# Altium footprint library APA3010.PcbLib: 1 footprints
Each footprint in its own frame and in the unit in brackets; x right, y up, seen from the top. Pads: shape width x height; smd on the part's side, far side on the other; paste and mask are expansions set on the pad; w line width, h text height; cw(c..) or ccw(c..) is an arc to the next point about the centre after c.
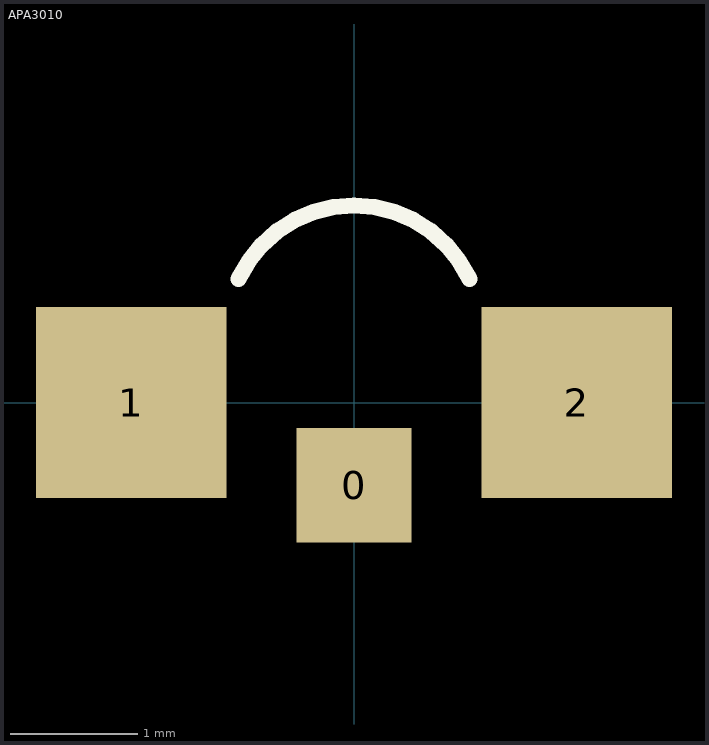
[diagram p0: the footprint, top view; thin cyan lines are the x and y axes]

## APA3010 [mm] "SMD Right Angle LED"
pads (3):
  rect 0.9x0.9 smd: 0(0,-0.65)
  rect 1.5x1.5 smd: 1(-1.75,0) 2(1.75,0)
Top Overlay:
  lines w0.127: -0.906,0.973 cw(c0,0.55) 0.906,0.973
3D body "APA3010.STEP": height 0.99, standoff -0.01, extent -1.5,-0.5 1.5,1.5